# EAGLE library part UX60SC-MB-5 (library Gekkio-connector)
Hirose USB 2.0 connectors - UX Series (SMT Mini-B)
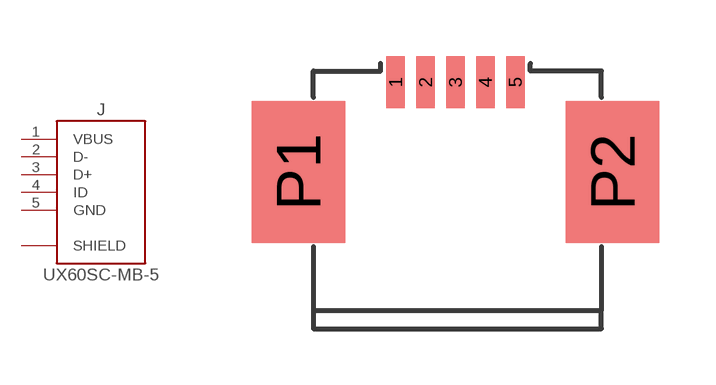
[diagram p0: symbol with the pads of UX60SC-MB-5ST; footprint UX60SC-MB-5ST]

Designator prefix J

## UX60SC-MB-5ST  [UX60SC-MB-5ST]
1  VBUS  sup
2  D-
3  D+
4  ID
5  GND  sup
P1  SHIELD  pas
P2  SHIELD  pas

## Footprint UX60SC-MB-5ST (pad centres in mm)
Hirose USB 2.0 - UX Series (Receptacle - Standard – Shell SMT) Tested Source: Hirose USB 2.0 Standard Connectors UX Series catalog, 1 August 2016
smd 0.5 x 1.4: 1 -1.6,2.5; 2 -0.8,2.5; 3 0,2.5; 4 0.8,2.5; 5 1.6,2.5
smd 2.5 x 3.8: P1 -4.2,0.1; P2 4.2,0.1